# Altium schematic symbol library 3dprinter_shield.SchLib: 17 symbols
Pins are listed as number, name and electrical type; pins without a type are passive.

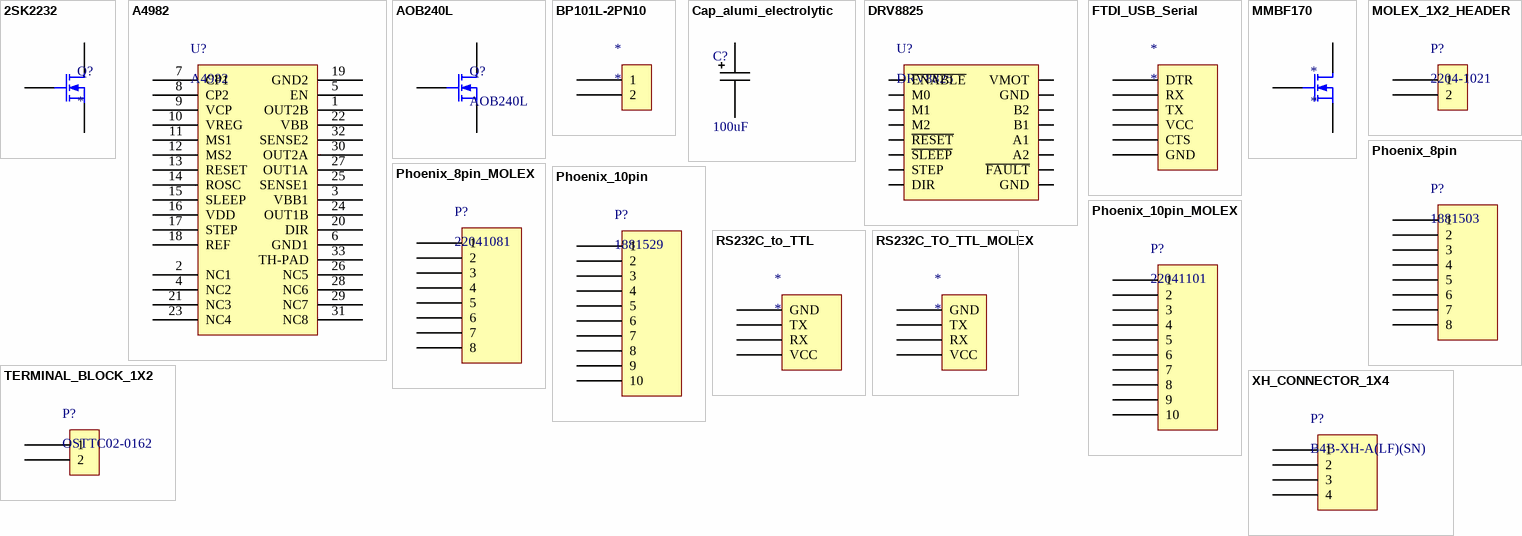
[diagram p0: symbols 2SK2232 to XH_CONNECTOR_1X4]

## 2SK2232
designator Q?
footprint 2SK2232
pins: D, G, S

## A4982
designator U?
footprint QFN50P500X500X100_HS-33N_2 (QFN, 32-Leads, Body 5.00x5.00mm, Pitch 0.50mm, Thermal Pad 3.40x3.40mm, IPC Medium Density)
pins: 1 OUT2B, 2 NC1, 3 VBB1, 4 NC2, 5 EN, 6 GND1, 7 CP1, 8 CP2, 9 VCP, 10 VREG, 11 MS1, 12 MS2, 13 RESET, 14 ROSC, 15 SLEEP, 16 VDD, 17 STEP, 18 REF, 19 GND2, 20 DIR, 21 NC3, 22 VBB, 23 NC4, 24 OUT1B, 25 SENSE1, 26 NC5, 27 OUT1A, 28 NC6, 29 NC7, 30 OUT2A, 31 NC8, 32 SENSE2, 33 TH-PAD

## AOB240L
designator Q?
footprint DPAK254P1524X483-3N (D2-PAK, 3-Pads, Body 7.93x8.57mm (max), IPC Medium Density)
pins: 1 G, 2 NC hidden, 3 S, 4 D

## BP101L-2PN10
designator *
footprint BP101L-2PN10
pins: 1, 2

## Cap_alumi_electrolytic
designator C?  (value not drawn)
footprint EEE-1HA470XP
footprint EEE-1HA101UP
pins: 1, 2
text: 100uF

## DRV8825
designator U?
footprint DRV8825
pins: A1, A2, B1, B2, DIR, ENABLE ~{ENABLE}, FAULT ~{FAULT}, GND, GND, M0, M1, M2, RESET ~{RESET}, SLEEP ~{SLEEP}, STEP, VMOT

## FTDI_USB_Serial
designator *
footprint FTDI_USB_Serial
pins: 1 DTR, 2 RX, 3 TX, 4 VCC, 5 CTS, 6 GND

## MMBF170
designator *
footprint MMBF170-SOT95P240X130-3N (SOT23, 3-Leads, Body 2.92x2.40mm, Pitch 0.95mm, IPC Medium Density)
pins: 1 G, 2 S, 3 D

## MOLEX_1X2_HEADER
designator P?, comment 2204-1021
footprint MOLEX_2204_1021
pins: 1, 2

## Phoenix_8pin
designator P?, comment 1881503
footprint Phoenix_8pin
pins: 1, 2, 3, 4, 5, 6, 7, 8

## Phoenix_8pin_MOLEX
designator P?, comment 22041081
footprint PHOENIX_8PIN_MOLEX
pins: 1, 2, 3, 4, 5, 6, 7, 8

## Phoenix_10pin
designator P?, comment 1881529
footprint Phoenix_10pin
pins: 1, 2, 3, 4, 5, 6, 7, 8, 9, 10

## Phoenix_10pin_MOLEX
designator P?, comment 22041101
footprint PHOENIX_10PIN_MOLEX
pins: 1, 2, 3, 4, 5, 6, 7, 8, 9, 10

## RS232C_to_TTL
designator *
footprint RS232C_to_TTL
pins: GND, RX, TX, VCC

## RS232C_TO_TTL_MOLEX
designator *
footprint RS232C_TO_TTL_MOLEX
pins: GND, RX, TX, VCC

## TERMINAL_BLOCK_1X2
designator P?, comment OSTTC02-0162
footprint OSTTC02-0162
pins: 1, 2

## XH_CONNECTOR_1X4
designator P?, comment B4B-XH-A(LF)(SN)
footprint B4B-XH-A
pins: 1, 2, 3, 4